# Altium schematic symbol library LM66200DRLR.SchLib: 1 symbol
Pins are listed as number, name and electrical type; pins without a type are passive.

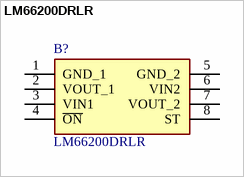
[diagram p0: symbol LM66200DRLR]

## LM66200DRLR
designator B?
1.6-V to 5.5-V, 40-m, 2.5-A, low-IQ, dual ideal diode; Manufacturer_Name: Texas Instruments; Geometry.Height: 0.6mm; Mouser Part Number: 595-LM66200DRLR; Mouser Price/Stock: https://www.mouser.co.uk/ProductDetail/Texas-Instruments/LM66200DRLR?qs=Rp5uXu7WBW90hnpZAkIOdQ%3D%3D; Manufacturer_Part_Number: LM66200DRLR; Datasheet Link: https://www.ti.com/lit/gpn/lm66200
footprint SOTFL50P160X60-8N
pins: 1 GND_1, 2 VOUT_1, 3 VIN1, 4 ~{ON}, 5 GND_2, 6 VIN2, 7 VOUT_2, 8 ST